# Altium schematic symbol library LCD.SchLib: 1 symbol
Pins are listed as number, name and electrical type; pins without a type are passive.

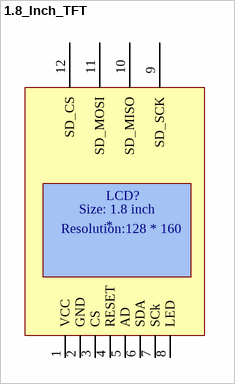
[diagram p0: symbol 1.8_Inch_TFT]

## 1.8_Inch_TFT
designator LCD?
footprint 1.8Inch_TFT
pins: 1 VCC, 2 GND, 3 CS, 4 RESET, 5 AD, 6 SDA, 7 SCk, 8 LED, 9 SD_SCK, 10 SD_MISO, 11 SD_MOSI, 12 SD_CS
text: Size: 1.8 inch; Resolution:128 * 160